# EAGLE library part ADXRS453BRGZ-RL (library gyrolib)
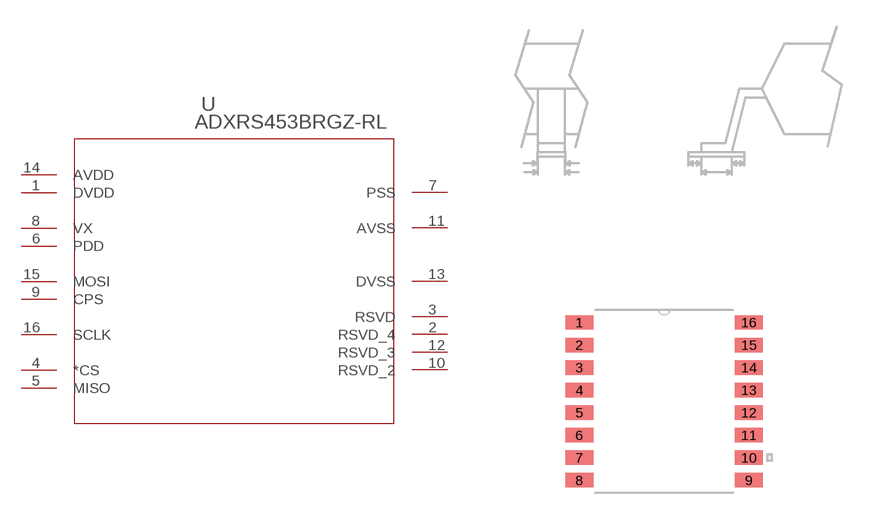
[diagram p1: symbol with the pads of RG_16_1; footprint RG_16_1]

Designator prefix U

## ADXRS453BRGZ-RL  [RG_16_1]
1  DVDD  pas
2  RSVD_4  pas
3  RSVD  pas
4  *CS  pas
5  MISO  pas
6  PDD  pas
7  PSS  pas
8  VX  pas
9  CPS  pas
10  RSVD_2  pas
11  AVSS  pas
12  RSVD_3  pas
13  DVSS  pas
14  AVDD  pas
15  MOSI  pas
16  SCLK  pas

## Footprint RG_16_1 (pad centres in mm)
smd 1.575 x 0.813: 1 -4.775,4.445; 2 -4.775,3.175; 3 -4.775,1.905; 4 -4.775,0.635; 5 -4.775,-0.635; 6 -4.775,-1.905; 7 -4.775,-3.175; 8 -4.775,-4.445; 9 4.775,-4.445; 10 4.775,-3.175; 11 4.775,-1.905; 12 4.775,-0.635; 13 4.775,0.635; 14 4.775,1.905; 15 4.775,3.175; 16 4.775,4.445